# EAGLE library part 74HC02 (library SMORSE_Chao)
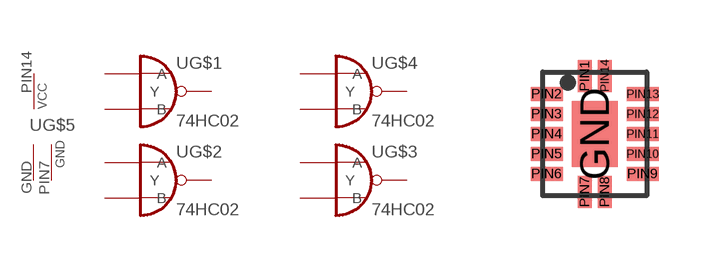
[diagram p1: symbol with the pads of VFQFN14; footprint VFQFN14]

Designator prefix -; gates G$1=74HC02 G$2=74HC02 G$3=74HC02 G$4=74HC02 G$5=1PWR2GND

## 74HC02  [VFQFN14]
GND  G$5:GND  pwr
PIN1  G$1:Y  out
PIN2  G$1:A  in
PIN3  G$1:B  in
PIN4  G$2:Y  out
PIN5  G$2:A  in
PIN6  G$2:B  in
PIN7  G$5:GND  pwr
PIN8  G$3:A  in
PIN9  G$3:B  in
PIN10  G$3:Y  out
PIN11  G$4:A  in
PIN12  G$4:B  in
PIN13  G$4:Y  out
PIN14  G$5:VCC  pwr

## Footprint VFQFN14 (pad centres in mm)
smd 1.15 x 1.65: GND 0,0
smd 0.35 x 0.8: PIN1 -0.25,1.45; PIN7 -0.25,-1.45; PIN8 0.25,-1.45; PIN14 0.25,1.45
smd 0.8 x 0.35: PIN2 -1.2,1; PIN3 -1.2,0.5; PIN4 -1.2,0; PIN5 -1.2,-0.5; PIN6 -1.2,-1; PIN9 1.2,-1; PIN10 1.2,-0.5; PIN11 1.2,0; PIN12 1.2,0.5; PIN13 1.2,1